# Altium schematic symbol library OSC 50MHZ TXC - 7C-50.000MBA-T - OSC, 50.000MHZ, 3.3V, SMD, 5.0X3.2.SchLib: 1 symbol
Pins are listed as number, name and electrical type; pins without a type are passive.

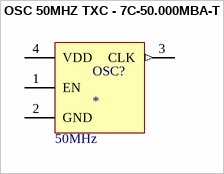
[diagram p0: symbol OSC 50MHZ TXC - 7C-50.000MBA-T]

## OSC 50MHZ TXC - 7C-50.000MBA-T
designator OSC?  value 50MHz
TXC - 7C-50.000MBA-T - OSC, 50.000MHZ, 3.3V, SMD, 5.0X3.2; farnell: 1842049
footprint 7C-50.000MBA-T (TXC - 7C-50.000MBA-T - OSC, 50.000MHZ, 3.3V, SMD, 5.0X3.2)
pins: 1 EN, 2 GND (power), 3 CLK (out), 4 VDD (power)